# Altium footprint library 1140084168.PcbLib: 2 footprints
Each footprint in its own frame and in the unit in brackets; x right, y up, seen from the top. Pads: shape width x height; smd on the part's side, far side on the other; paste and mask are expansions set on the pad; w line width, h text height; cw(c..) or ccw(c..) is an arc to the next point about the centre after c.
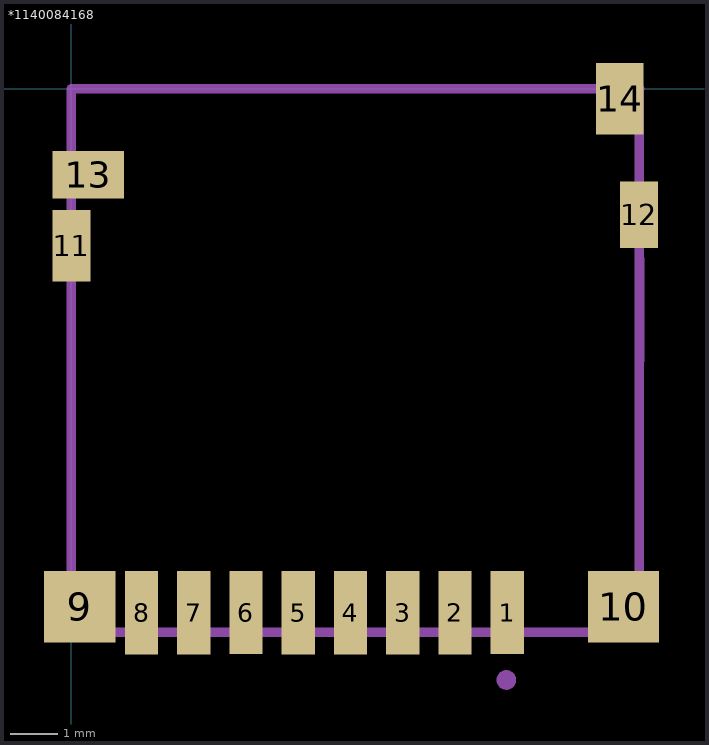
[diagram p0: the footprints below, top view; thin cyan lines are the x and y axes]

## *1140084168 [mm]
pads (14):
  rect 0.7x1.75 smd: 1(9.175,-11.038) 6(3.675,-11.038)
  rect 0.701x1.753 smd: 2(8.075,-11.038) 8(1.475,-11.038)
  rect 0.701x1.752 smd: 3(6.975,-11.038) 4(5.875,-11.038) 5(4.775,-11.038) 7(2.575,-11.038)
  rect 1.501x1.501 smd: 9(0.175,-10.913)
  rect 1.502x1.502 smd: 10(11.625,-10.913)
  rect 0.801x1.501 smd: 11(0,-3.313)
  rect 0.8x1.401 smd: 12(11.95,-2.663)
  rect 1.5x1 smd: 13(0.355,-1.813)
  rect 1.001x1.502 smd: 14(11.55,-0.213)
Mechanical 4:
  circle w0.2: c9.159,-12.455 r0.106
  circle w0.2: c9.159,-12.455 r0.106
  lines w0.2: 0,0 11.963,0 0,0 ; 0,0 0,-11.466 0,0 ; 0,0 10.631,0 0,0 ; 0,-11.451 11.951,-11.451 0,-11.451 ; 0,-9.771 0,-5.735 0,-9.771 ; 0,-5.729 0,-4.388 0,-5.729 ; 11.957,-11.457 11.957,0 11.957,-11.457 ; 11.96,-9.841 11.96,-5.73 11.96,-9.841 ; 11.963,-5.731 11.963,-3.583 11.963,-5.731
3D body "1140084168--3DModel-STEP-56544.STEP": height 1.55, standoff 0.05, extent -0.056,-11.326 11.964,0.174

## PCBComponent_1 [mm]